# Altium footprint library 008-Machinery.PcbLib: 2 footprints
Each footprint in its own frame and in the unit in brackets; x right, y up, seen from the top. Pads: shape width x height; smd on the part's side, far side on the other; paste and mask are expansions set on the pad; w line width, h text height; cw(c..) or ccw(c..) is an arc to the next point about the centre after c.
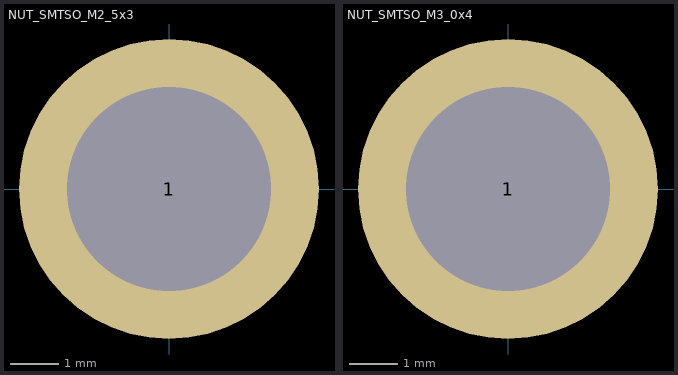
[diagram p0: the footprints below, top view; thin cyan lines are the x and y axes]

## NUT_SMTSO_M2_5x3 [mm] "PCB表贴圆螺母柱-SMTSO-M2.5x3-5.56mm5.56mm*4.53mm"
pads (1):
  round 6.2 hole 4.22: 1(0,0)
3D body "NUT_SMTSO_M2_5x3.step": height 4.07, standoff -1.53, extent -2.778,-2.802 2.798,2.807

## NUT_SMTSO_M3_0x4 [mm] "PCB表贴圆螺母柱-SMTSO-M3.0x4-5.56mm5.56mm*5.53mm"
pads (1):
  round 6.2 hole 4.22: 1(0,0)
3D body "NUT_SMTSO_M3_0x4.step": height 4.07, standoff -1.53, extent -2.778,-2.802 2.798,2.807